# Altium footprint library PcbLib1.PcbLib: 1 footprints
Each footprint in its own frame and in the unit in brackets; x right, y up, seen from the top. Pads: shape width x height; smd on the part's side, far side on the other; paste and mask are expansions set on the pad; w line width, h text height; cw(c..) or ccw(c..) is an arc to the next point about the centre after c.
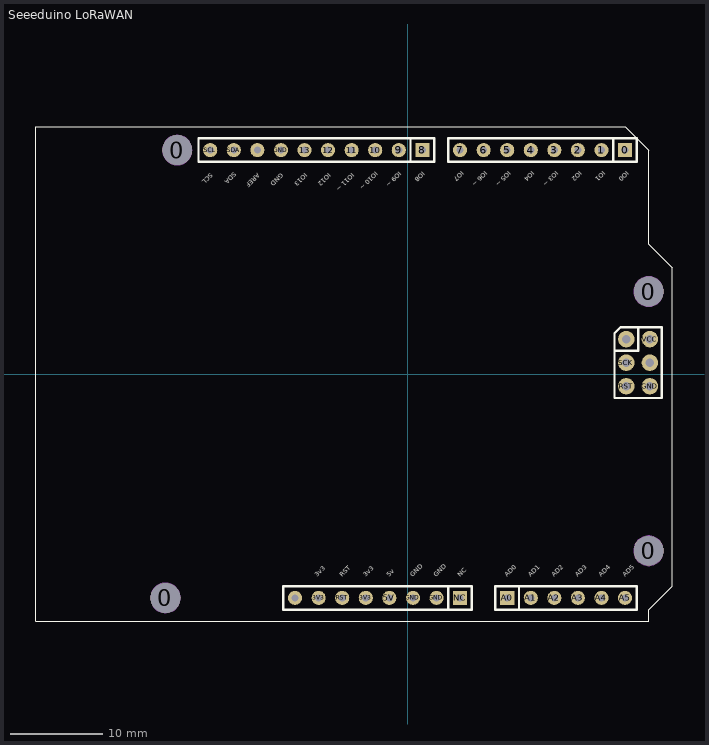
[diagram p0: the footprint, top view; thin cyan lines are the x and y axes]

## Seeeduino LoRaWAN [mil]
pads (42):
  round 125.98 hole 125.98: 0(-1027.76,-950) 0(-977.76,950) 0(1022.24,-750) 0(1022.24,350)
  rect 60x60 hole 30: 0(922.24,950) 8(62.24,950) A0(422.24,-950) NC(222.24,-950)
  round 60 hole 30: 1(822.24,950) 2(722.24,950) 3(622.24,950) 3V3(-377.76,-950) 3V3(-177.76,-950) 4(522.24,950) 5(422.24,950) 5V(-77.76,-950) 6(322.24,950) 7(222.24,950) 9(-37.76,950) 10(-137.76,950) 11(-237.76,950) 12(-337.76,950) 13(-437.76,950) A1(522.24,-950) A2(622.24,-950) A3(722.24,-950) A4(822.24,-950) A5(922.24,-950) AREF(-637.76,950) GND(-537.76,950) GND(22.24,-950) GND(122.24,-950) RESERVE(-477.76,-950) RST(-277.76,-950) SCL(-837.76,950) SDA(-737.76,950)
  round 70 hole 35.43: GND(1027.76,-51.97) MISO(927.76,148.03) MOSI(1027.76,48.03) RST(927.76,-51.97) SCK(927.76,48.03) VCC(1027.76,148.03)
Top Overlay:
  lines w5: -1577.76,-1050 -1577.76,1050 922.24,1050 1022.24,950 1022.24,550 1122.24,450 1122.24,-900 1022.24,-1000 1022.24,-1050 -1577.76,-1050
  lines w10: 172.24,-1000 172.24,-900 ; 872.24,900 872.24,1000 ; 877.76,98.03 977.76,98.03 977.76,198.03 ; 12.24,900 -887.76,900 -887.76,1000 12.24,1000 ; 12.24,900 12.24,1000 ; 12.24,900 112.24,900 112.24,1000 12.24,1000 ; 472.24,-1000 372.24,-1000 372.24,-950 372.24,-900 472.24,-900 ; 472.24,-1000 472.24,-900 ; 472.24,-1000 972.24,-1000 972.24,-900 472.24,-900 ; -527.76,-1000 -527.76,-900 272.24,-900 272.24,-1000 -527.76,-1000 ; 172.24,900 172.24,1000 972.24,1000 972.24,900 172.24,900 ; 877.76,-101.97 877.76,173.03 902.76,198.03 1077.76,198.03 1077.76,-101.97 877.76,-101.97
  text "AREF" at -637.76,852.93 h20
  text "GND" at -537.76,852.93 h20
  text "IO13" at -437.76,852.93 h20
  text "IO12" at -337.76,852.93 h20
  text "IO11 ~" at -237.76,852.93 h20
  text "IO10 ~" at -137.76,860 h20
  text "IO9 ~" at -37.76,860 h20
  text "IO8" at 62.24,860 h20
  text "IO7" at 227.24,862.93 h20
  text "IO6 ~" at 327.24,862.93 h20
  text "IO5 ~" at 427.24,862.93 h20
  text "IO4" at 527.24,862.93 h20
  text "IO3 ~" at 627.24,862.93 h20
  text "IO2" at 727.24,862.93 h20
  text "IO1" at 827.24,862.93 h20
  text "IO0" at 927.24,862.93 h20
  text "AD5" at 922.24,-862.93 h20
  text "AD4" at 822.24,-862.93 h20
  text "AD3" at 722.24,-862.93 h20
  text "AD2" at 622.24,-862.93 h20
  text "AD1" at 522.24,-862.93 h20
  text "AD0" at 422.24,-862.93 h20
  text "NC" at 222.24,-862.93 h20
  text "GND" at 122.24,-862.93 h20
  text "GND" at 22.24,-862.93 h20
  text "5v" at -77.76,-862.93 h20
  text "3v3" at -177.76,-862.93 h20
  text "RST" at -277.76,-862.93 h20
  text "3v3" at -382.76,-862.93 h20
  text "SDA" at -737.76,857.93 h20
  text "SCL" at -837.76,852.93 h20
Mechanical 1:
  circle w5: c1022.24,350 r62.99
  circle w5: c-1027.76,-950 r62.99
  circle w5: c1022.24,-750 r62.99
  circle w5: c-977.76,950 r62.99
3D body: height 334.65, standoff -584.65, extent 372.25,-999.99 972.25,-899.99
3D body: height 334.65, standoff -584.65, extent -887.76,900 112.24,1000
3D body: height 334.65, standoff -584.65, extent 172.24,899.99 972.24,999.99
3D body: height 334.65, standoff -584.65, extent -527.76,-1000.01 272.24,-900.01
3D body: height 484.65, standoff -105.84, extent 877.76,-101.96 1077.76,198.04